# Altium schematic symbol library Schlib1.SchLib: 3 symbols
Pins are listed as number, name and electrical type; pins without a type are passive.

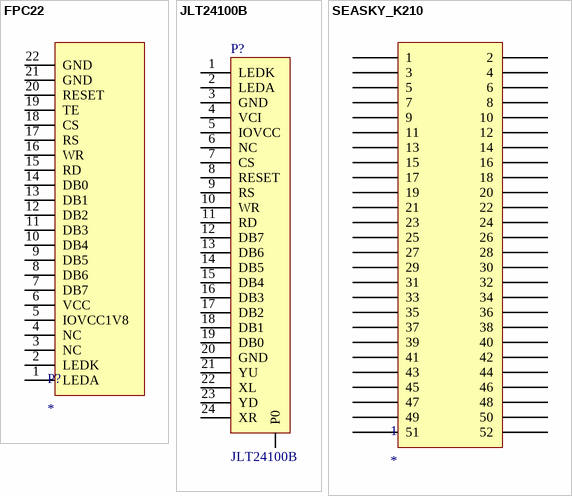
[diagram p0: symbols FPC22 to SEASKY_K210]

## FPC22
designator P?
footprint FPC0.5 2H-WS-22P (长：15.2mm，宽：5.2mm，高：2mm 淘宝ID:黄晶宝石   店铺网址:https://shop463601444.taobao.com)
pins: 1 LEDA, 2 LEDK, 3 NC, 4 NC, 5 IOVCC1V8, 6 VCC, 7 DB7, 8 DB6, 9 DB5, 10 DB4, 11 DB3, 12 DB2, 13 DB1, 14 DB0, 15 RD, 16 WR, 17 RS, 18 CS, 19 TE, 20 RESET, 21 GND, 22 GND

## JLT24100B
designator P?
LatestRevisionDate: 17-Jul-2002; LatestRevisionNote: Re-released for DXP Platform.; Publisher: Altium Limited
footprint FFC/SM0.5-2H24-LCD (Connector; FH12 Series; 24 Position; 0.5mm Spaced Bottom Contact)
pins: 1 LEDK, 2 LEDA, 3 GND, 4 VCI, 5 IOVCC, 6 NC, 7 CS, 8 RESET, 9 RS, 10 WR, 11 RD, 12 DB7, 13 DB6, 14 DB5, 15 DB4, 16 DB3, 17 DB2, 18 DB1, 19 DB0, 20 GND, 21 YU, 22 XL, 23 YD, 24 XR, P0

## SEASKY_K210
designator 1
mini-PCI-E
footprint SEASKY_K210
pins: 1, 2, 3, 4, 5, 6, 7, 8, 9, 10, 11, 12, 13, 14, 15, 16, 17, 18, 19, 20, 21, 22, 23, 24, 25, 26, 27, 28, 29, 30, 31, 32, 33, 34, 35, 36, 37, 38, 39, 40, 41, 42, 43, 44, 45, 46, 47, 48, 49, 50, 51, 52